# EAGLE library part D__7SEGMENT_0A04 (library ++Bedrahtet)
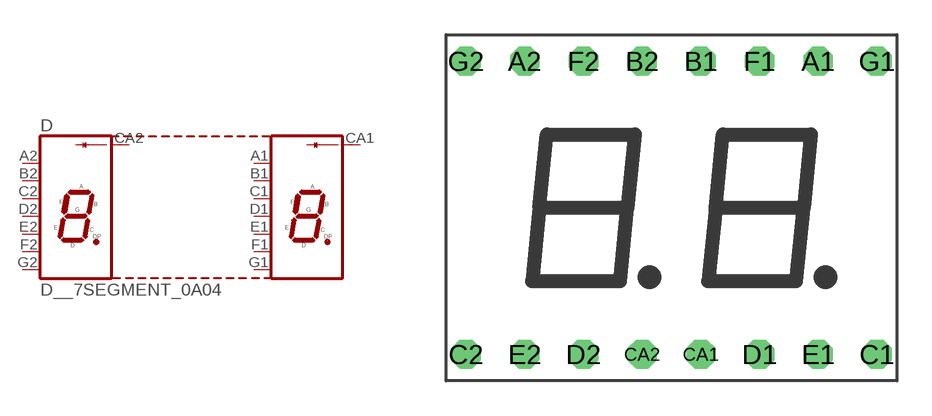
[diagram p21: symbol with the pads of 7-SEG-0A04; footprint 7-SEG-0A04]

Designator prefix D

## D__7SEGMENT_0A04  [7-SEG-0A04]
A1  A1  pas
A2  A2  pas
B1  B1  pas
B2  B2  pas
C1  C1  pas
C2  C2  pas
CA1  CA1  pas
CA2  CA2  pas
D1  D1  pas
D2  D2  pas
E1  E1  pas
E2  E2  pas
F1  F1  pas
F2  F2  pas
G1  G1  pas
G2  G2  pas

## Footprint 7-SEG-0A04 (pad centres in mm)
drill 0.6 pad 1.27 octagon: A1 6.35,6.35; A2 -6.35,6.35; B1 1.27,6.35; B2 -1.27,6.35; C1 8.89,-6.35; C2 -8.89,-6.35; CA1 1.27,-6.35; CA2 -1.27,-6.35; D1 3.81,-6.35; D2 -3.81,-6.35; E1 6.35,-6.35; E2 -6.35,-6.35; F1 3.81,6.35; F2 -3.81,6.35; G1 8.89,6.35; G2 -8.89,6.35